# Altium footprint library MS5803.PcbLib: 1 footprints
Each footprint in its own frame and in the unit in brackets; x right, y up, seen from the top. Pads: shape width x height; smd on the part's side, far side on the other; paste and mask are expansions set on the pad; w line width, h text height; cw(c..) or ccw(c..) is an arc to the next point about the centre after c.
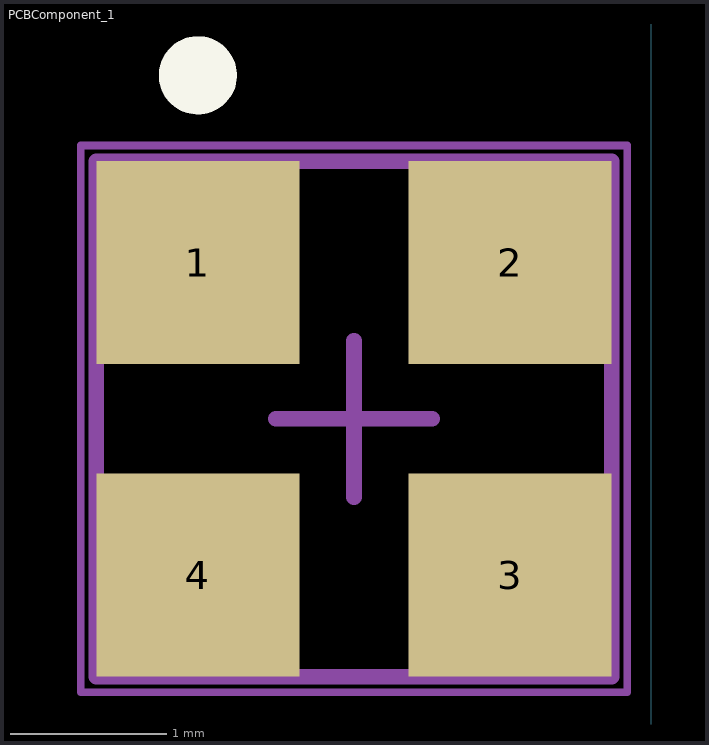
[diagram p0: the footprint, top view; thin cyan lines are the x and y axes]

## PCBComponent_1 [mm]
pads (4):
  rect 1.3x1.3 smd: 1(-2.905,3.032) 2(-0.905,3.032) 3(-0.905,1.032) 4(-2.905,1.032)
Top Overlay:
  circle w0.25: c-2.905,4.232 r0.125
Mechanical 13:
  lines w0.1: -3.555,0.382 -3.555,3.682 -0.255,3.682 -0.255,0.382 -3.555,0.382
Mechanical 15:
  lines w0.05: -3.655,0.282 -3.655,3.782 -0.155,3.782 -0.155,0.282 -3.655,0.282
  lines w0.1: -2.405,2.032 -1.405,2.032 ; -1.905,1.532 -1.905,2.532
3D body: height 2.75, standoff 2.55, extent -3.22,1.175 -0.59,3.81
3D body: height 2.55, standoff 1.35, extent -2.852,1.079 -0.95,2.985
3D body: height 1.35, standoff 0.6, extent -3.383,0.545 -0.415,3.519
3D body: height 0.6, standoff 0.1, extent -3.555,0.382 -0.255,3.682